# Altium schematic symbol library UCC28600DR1_UCC28600DR.SCHLIB: 1 symbol
Pins are listed as number, name and electrical type; pins without a type are passive.

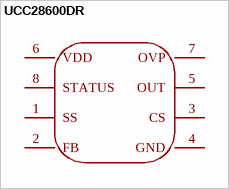
[diagram p0: symbol UCC28600DR]

## UCC28600DR
designator U??  (value not drawn)
Manufacturer: TI(德州仪器); Add into BOM: yes; Output Isolation: 隔离; Supply Voltage: 8V~21V; Switching Frequency: 40kHz~130kHz; Duty Cycle: 99%; Topology: 反激式; Symbol: UCC28600DR; Device: UCC28600DR; LCSC Part Name: UCC28600DR; Supplier Part: C28585; Manufacturer Part: UCC28600DR; Supplier Footprint: SOIC-8; JLCPCB Part Class: Extended Part; Datasheet: https://www.ti.com/cn/lit/gpn/ucc28600; Supplier: LCSC; Convert to PCB: yes; Operating Temperature: -40℃~+105℃@(Ta)
footprint SOIC-8_L5.0-W4.0-P1.27-LS6.0-BL
pins: 1 SS, 2 FB, 3 CS, 4 GND, 5 OUT, 6 VDD, 7 OVP, 8 STATUS